# EAGLE library part TPS2561DRCT (library Roboracing)
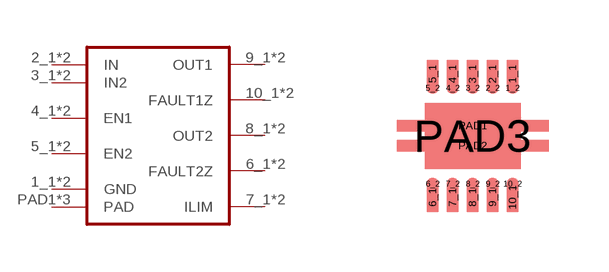
[diagram p6: symbol with the pads of 10-VSON; footprint 10-VSON]

Designator prefix U

## TPS2561DRCT  [10-VSON]
1_1  GND
1_2  GND
2_1  IN
2_2  IN
3_1  IN2
3_2  IN2
4_1  EN1
4_2  EN1
5_1  EN2
5_2  EN2
6_1  FAULT2Z
6_2  FAULT2Z
7_1  ILIM
7_2  ILIM
8_1  OUT2
8_2  OUT2
9_1  OUT1
9_2  OUT1
10_1  FAULT1Z
10_2  FAULT1Z
PAD1  PAD
PAD2  PAD
PAD3  PAD

## Footprint 10-VSON (pad centres in mm)
smd 0.28 x 0.71: 1_1 1,1.545; 2_1 0.5,1.545; 3_1 0,1.545; 4_1 -0.5,1.545; 5_1 -1,1.545; 6_1 -1,-1.545; 7_1 -0.5,-1.545; 8_1 0,-1.545; 9_1 0.5,-1.545; 10_1 1,-1.545
smd 0.28 x 0.28: 1_2 1,1.2; 2_2 0.5,1.2; 3_2 0,1.2; 4_2 -0.5,1.2; 5_2 -1,1.2; 6_2 -1,-1.2; 7_2 -0.5,-1.2; 8_2 0,-1.2; 9_2 0.5,-1.2; 10_2 1,-1.2
smd 3.8 x 0.28: PAD1 0,0.25; PAD2 0,-0.25
smd 2.4 x 1.65: PAD3 0,0